# Altium schematic symbol library Connectors.SchLib: 47 symbols
Pins are listed as number, name and electrical type; pins without a type are passive.

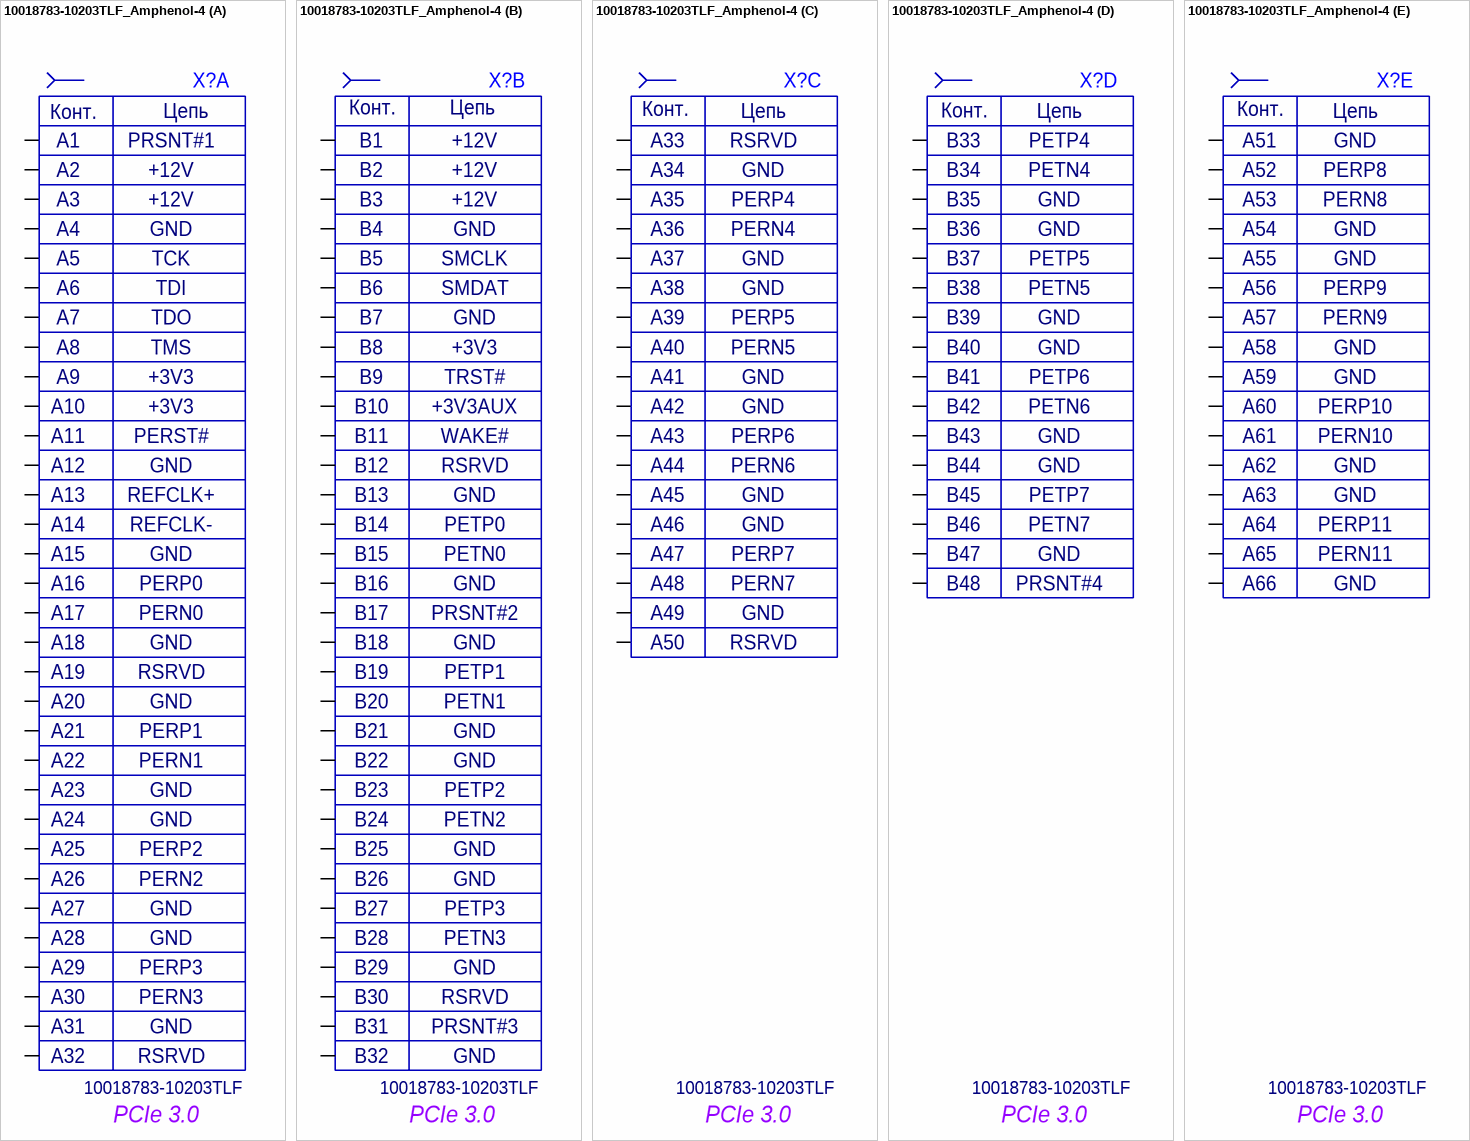
[diagram p0: symbol 10018783-10203TLF_Amphenol-4]

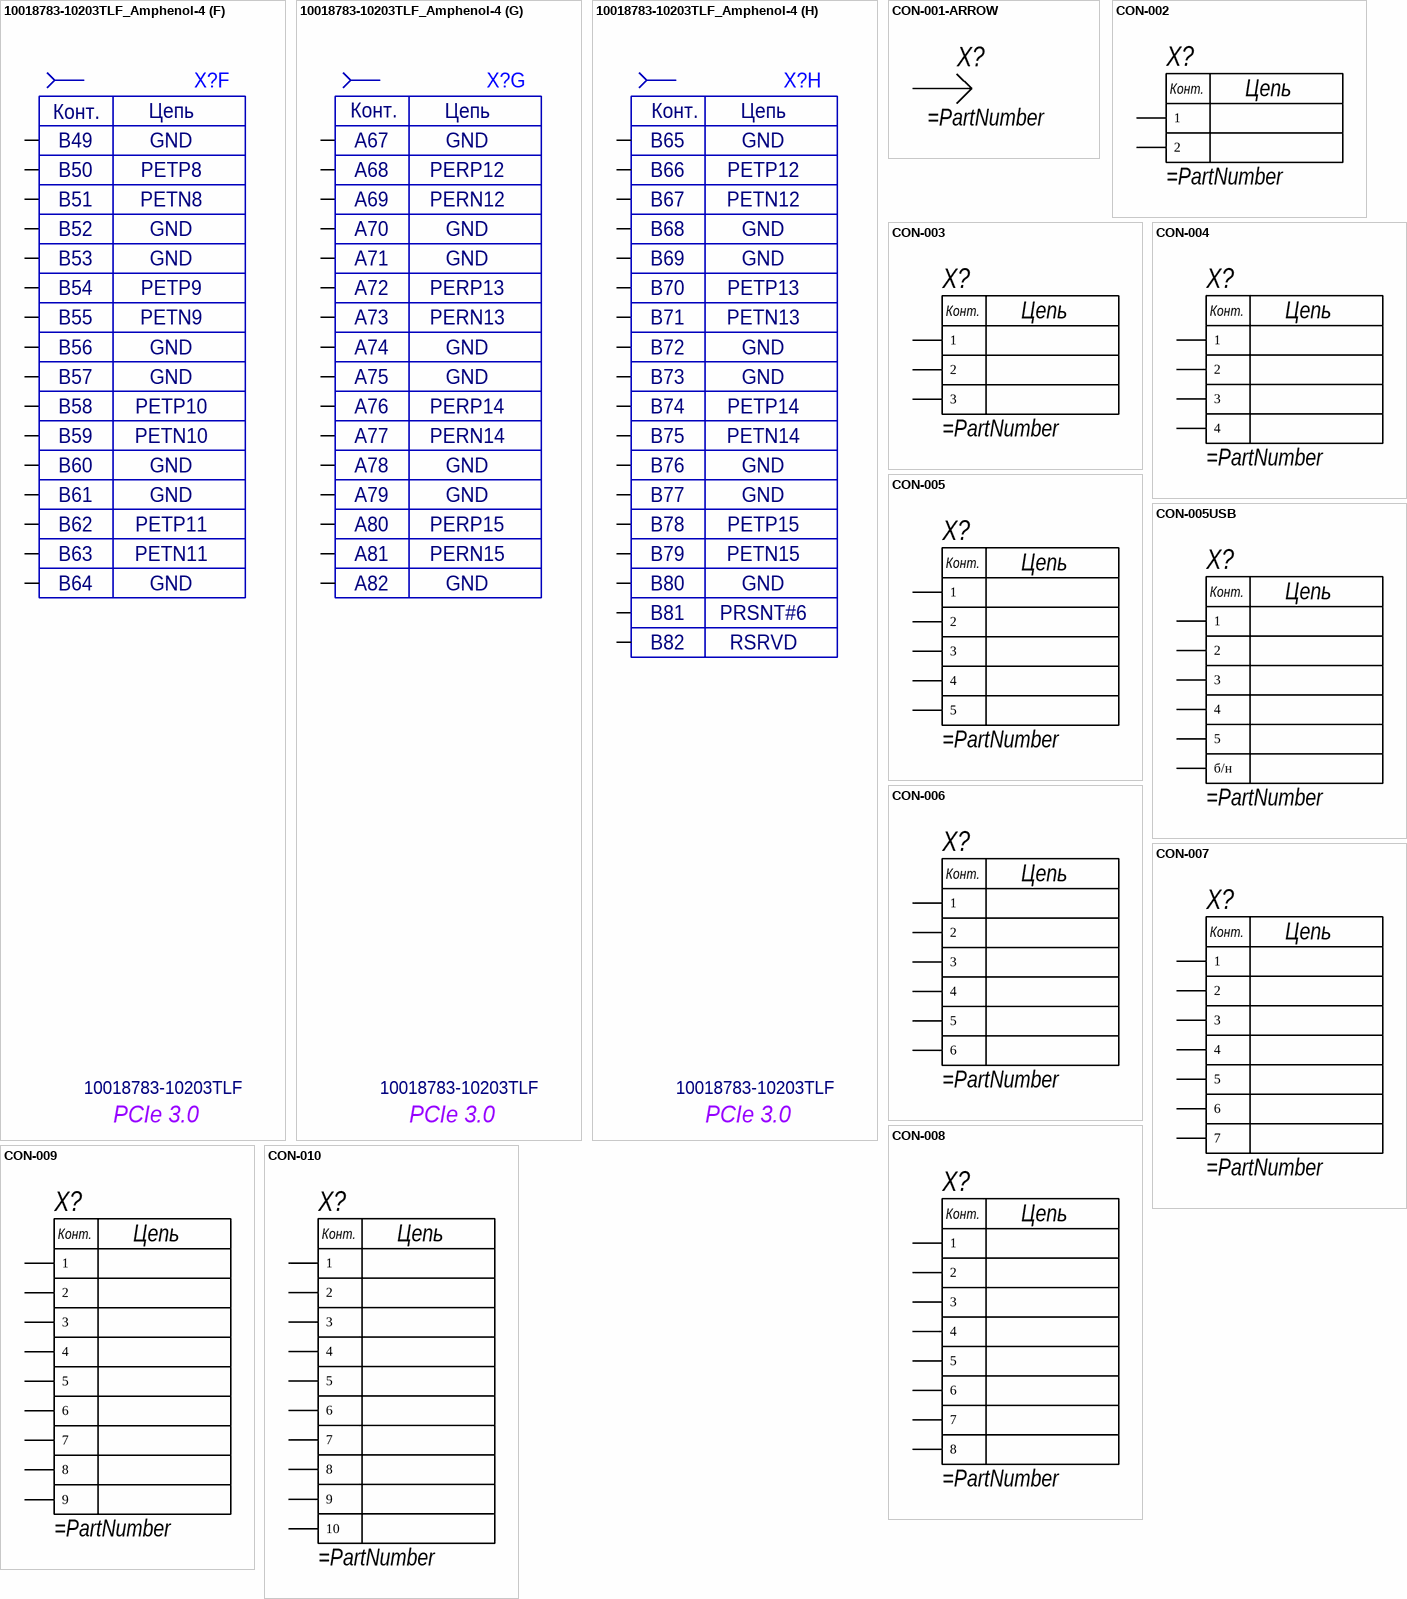
[diagram p1: symbols 10018783-10203TLF_Amphenol-4 to CON-010]

## 10018783-10203TLF_Amphenol-4
designator X?, comment PCIe 3.0  PartNumber: 10018783-10203TLF
PCI Express® GEN 3 Card Edge, Storage and Server Connector, Vertical, Through Hole, x16, 164 Positions, 1.00mm (0.039in) Pitch; Manufacturer: Amphenol; ЕСКД: Розетка 10018783-10203TLF; Категория: Розетка; Placement: +; Quantity pins: 164
part A pins: A1 PRSNT#1, A2 +12V, A3 +12V, A4 GND, A5 TCK, A6 TDI, A7 TDO, A8 TMS, A9 +3V3, A10 +3V3, A11 PWRGD, A12 GND, A13 REFCLK+, A14 REFCLK-, A15 GND, A16 PERP0, A17 PERN0, A18 GND, A19 RSRVD, A20 GND, A21 PERP1, A22 PERN1, A23 GND, A24 GND, A25 PERP2, A26 PERN2, A27 GND, A28 2.5, A29 PERP3, A30 PERN3, A31 GND, A32 RSVD
part B pins: B1 +12V, B2 +12V, B3 +12V, B4 GND, B5 2.5, B6 SMDAT, B7 GND, B8 +3V3, B9 JTAG1, B10 +3V3AUX, B11 WAKE#, B12 RSVD, B13 GND, B14 PETP0, B15 PETN0, B16 GND, B17 PRSNT#2, B18 GND, B19 PETP1, B20 PETN1, B21 GND, B22 GND, B23 PETP2, B24 PETN2, B25 GND, B26 GND, B27 PETP3, B28 PETN3, B29 GND, B30 RSVD, B31 PRSNT#2, B32 GND
part C pins: A33 RSRVD, A34 GND, A35 PERP4, A36 PERN4, A37 GND, A38 GND, A39 PERP5, A40 PERN5, A41 GND, A42 GND, A43 PERP6, A44 PERN6, A45 GND, A46 GND, A47 PERP7, A48 PERN7, A49 GND, A50 RSRVD
part D pins: B33 PETP4, B34 PETN4, B35 GND, B36 GND, B37 PETP5, B38 PETN5, B39 GND, B40 GND, B41 PETP6, B42 PETN6, B43 GND, B44 GND, B45 PETP7, B46 PETN7, B47 GND, B48 PRSNT#4
part E pins: A51 GND, A52 PERP8, A53 PERN8, A54 GND, A55 GND, A56 PERP9, A57 PERN9, A58 GND, A59 GND, A60 PERP10, A61 PERN10, A62 GND, A63 GND, A64 PERP11, A65 PERN11, A66 GND
part F pins: B49 GND, B50 PETP8, B51 PETN8, B52 GND, B53 GND, B54 PETP9, B55 PETN9, B56 GND, B57 GND, B58 PETP10, B59 PETN10, B60 GND, B61 GND, B62 PETP11, B63 PETN11, B64 GND
part G pins: A67 GND, A68 PERP12, A69 PERN12, A70 GND, A71 GND, A72 PERP13, A73 PERN13, A74 GND, A75 GND, A76 PERP14, A77 PERN14, A78 GND, A79 GND, A80 PERP15, A81 PERN15, A82 GND
part H pins: B65 GND, B66 PETP12, B67 PETN12, B68 GND, B69 GND, B70 PETP13, B71 PETN13, B72 GND, B73 GND, B74 PETP14, B75 PETN14, B76 GND, B77 GND, B78 PETP15, B79 PETN15, B80 GND, B81 PRSNT#6, B82 RSRVD
part A text: Конт.; Цепь; PERST#
part B text: Конт.; Цепь; SMCLK; TRST#; PRSNT#3
part C text: Конт.; Цепь
part D text: Конт.; Цепь
part E text: Конт.; Цепь
part F text: Конт.; Цепь
part G text: Конт.; Цепь
part H text: Конт.; Цепь

## CON-001-ARROW
designator X?
pins: 1

## CON-002
designator X?
pins: 1, 2
text: Цепь; Конт.

## CON-003
designator X?
pins: 1, 2, 3
text: Цепь; Конт.

## CON-004
designator X?
pins: 1, 2, 3, 4
text: Цепь; Конт.

## CON-005
designator X?
pins: 1, 2, 3, 4, 5
text: Цепь; Конт.

## CON-005USB
designator X?
pins: 1, 2, 3, 4, 5, M б/н
text: Цепь; Конт.

## CON-006
designator X?
pins: 1, 2, 3, 4, 5, 6
text: Цепь; Конт.

## CON-007
designator X?
pins: 1, 2, 3, 4, 5, 6, 7
text: Цепь; Конт.

## CON-008
designator X?
pins: 1, 2, 3, 4, 5, 6, 7, 8
text: Цепь; Конт.

## CON-009
designator X?
pins: 1, 2, 3, 4, 5, 6, 7, 8, 9
text: Цепь; Конт.

## CON-010
designator X?
pins: 1, 2, 3, 4, 5, 6, 7, 8, 9, 10
text: Цепь; Конт.

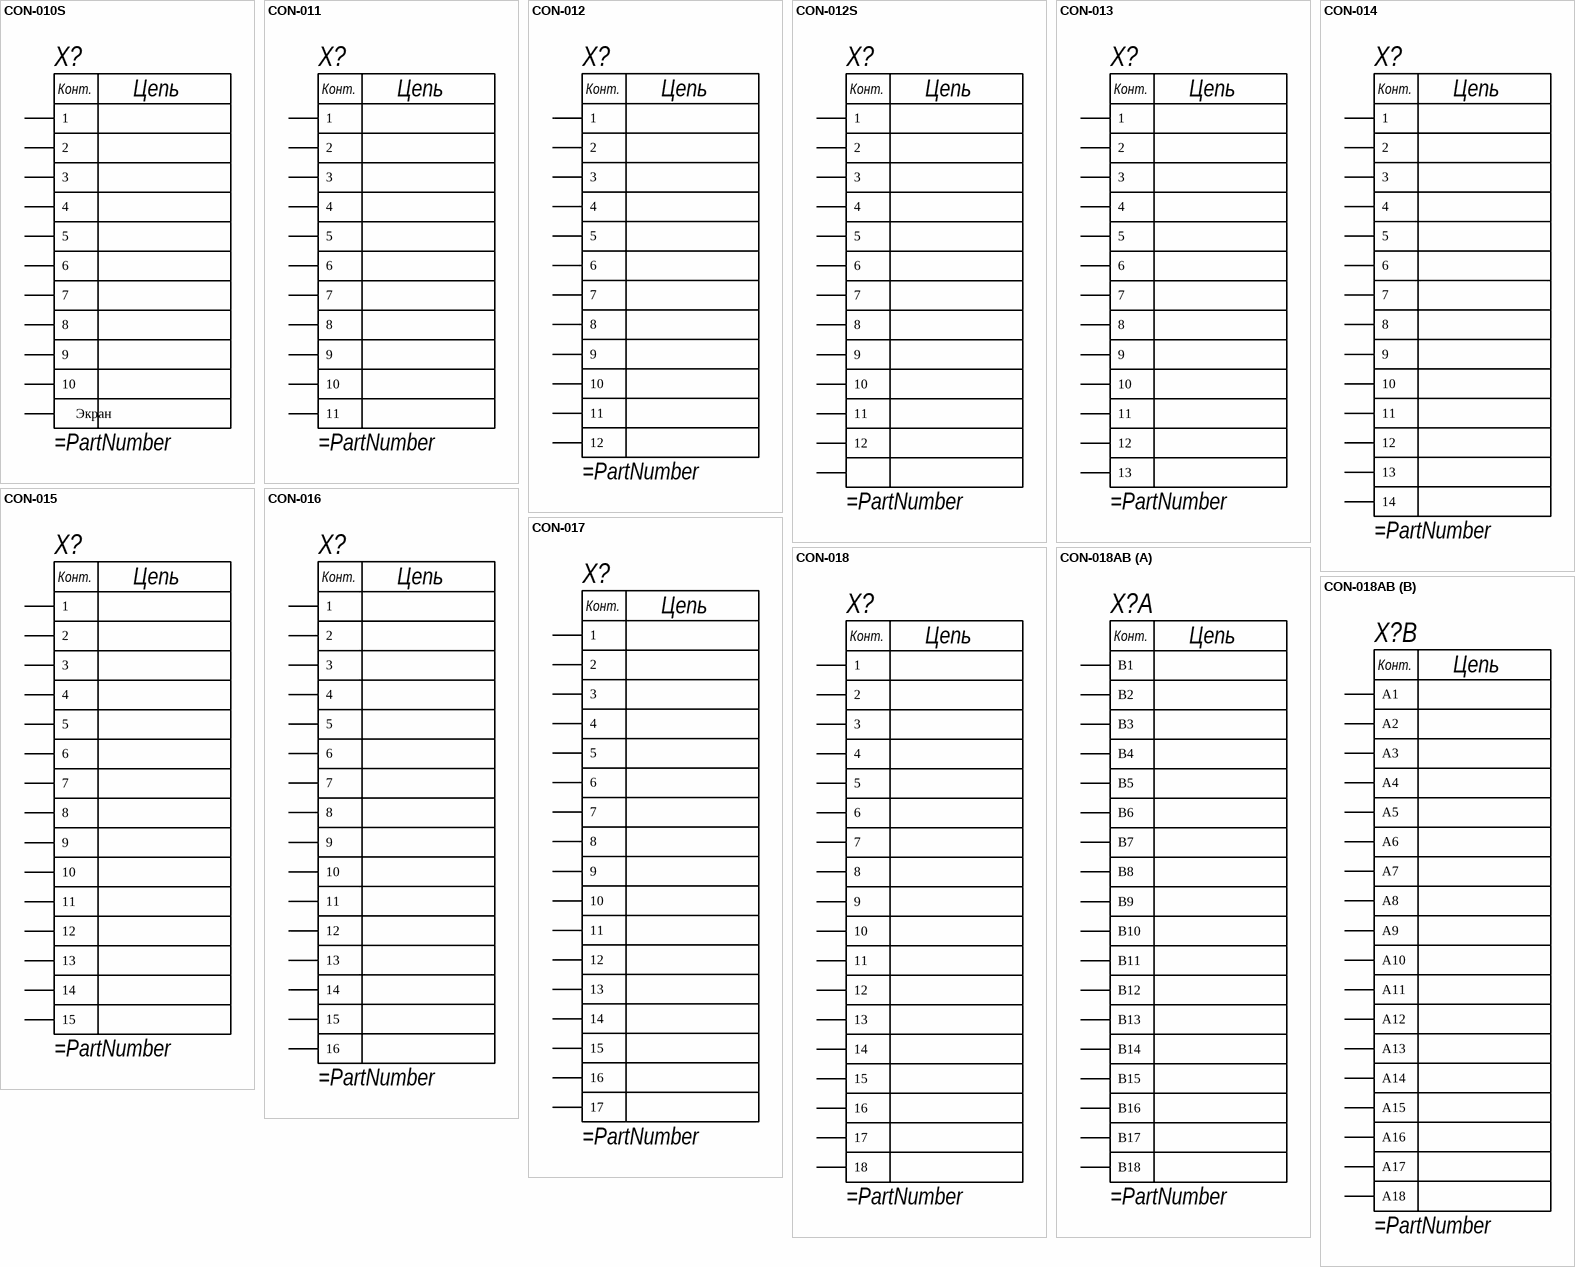
[diagram p2: symbols CON-010S to CON-018AB]

## CON-010S
designator X?
pins: 1, 2, 3, 4, 5, 6, 7, 8, 9, 10, S     Экран
text: Цепь; Конт.

## CON-011
designator X?
pins: 1, 2, 3, 4, 5, 6, 7, 8, 9, 10, 11
text: Цепь; Конт.

## CON-012
designator X?
pins: 1, 2, 3, 4, 5, 6, 7, 8, 9, 10, 11, 12
text: Цепь; Конт.

## CON-012S
designator X?
pins: 1, 2, 3, 4, 5, 6, 7, 8, 9, 10, 11, 12, S Экран
text: Цепь; Конт.

## CON-013
designator X?
pins: 1, 2, 3, 4, 5, 6, 7, 8, 9, 10, 11, 12, 13
text: Цепь; Конт.

## CON-014
designator X?
pins: 1, 2, 3, 4, 5, 6, 7, 8, 9, 10, 11, 12, 13, 14
text: Цепь; Конт.

## CON-015
designator X?
pins: 1, 2, 3, 4, 5, 6, 7, 8, 9, 10, 11, 12, 13, 14, 15
text: Цепь; Конт.

## CON-016
designator X?
pins: 1, 2, 3, 4, 5, 6, 7, 8, 9, 10, 11, 12, 13, 14, 15, 16
text: Цепь; Конт.

## CON-017
designator X?
pins: 1, 2, 3, 4, 5, 6, 7, 8, 9, 10, 11, 12, 13, 14, 15, 16, 17
text: Цепь; Конт.

## CON-018
designator X?
pins: 1, 2, 3, 4, 5, 6, 7, 8, 9, 10, 11, 12, 13, 14, 15, 16, 17, 18
text: Цепь; Конт.

## CON-018AB
designator X?
part A pins: B1, B2, B3, B4, B5, B6, B7, B8, B9, B10, B11, B12, B13, B14, B15, B16, B17, B18
part B pins: A1, A2, A3, A4, A5, A6, A7, A8, A9, A10, A11, A12, A13, A14, A15, A16, A17, A18
part A text: Цепь; Конт.
part B text: Цепь; Конт.

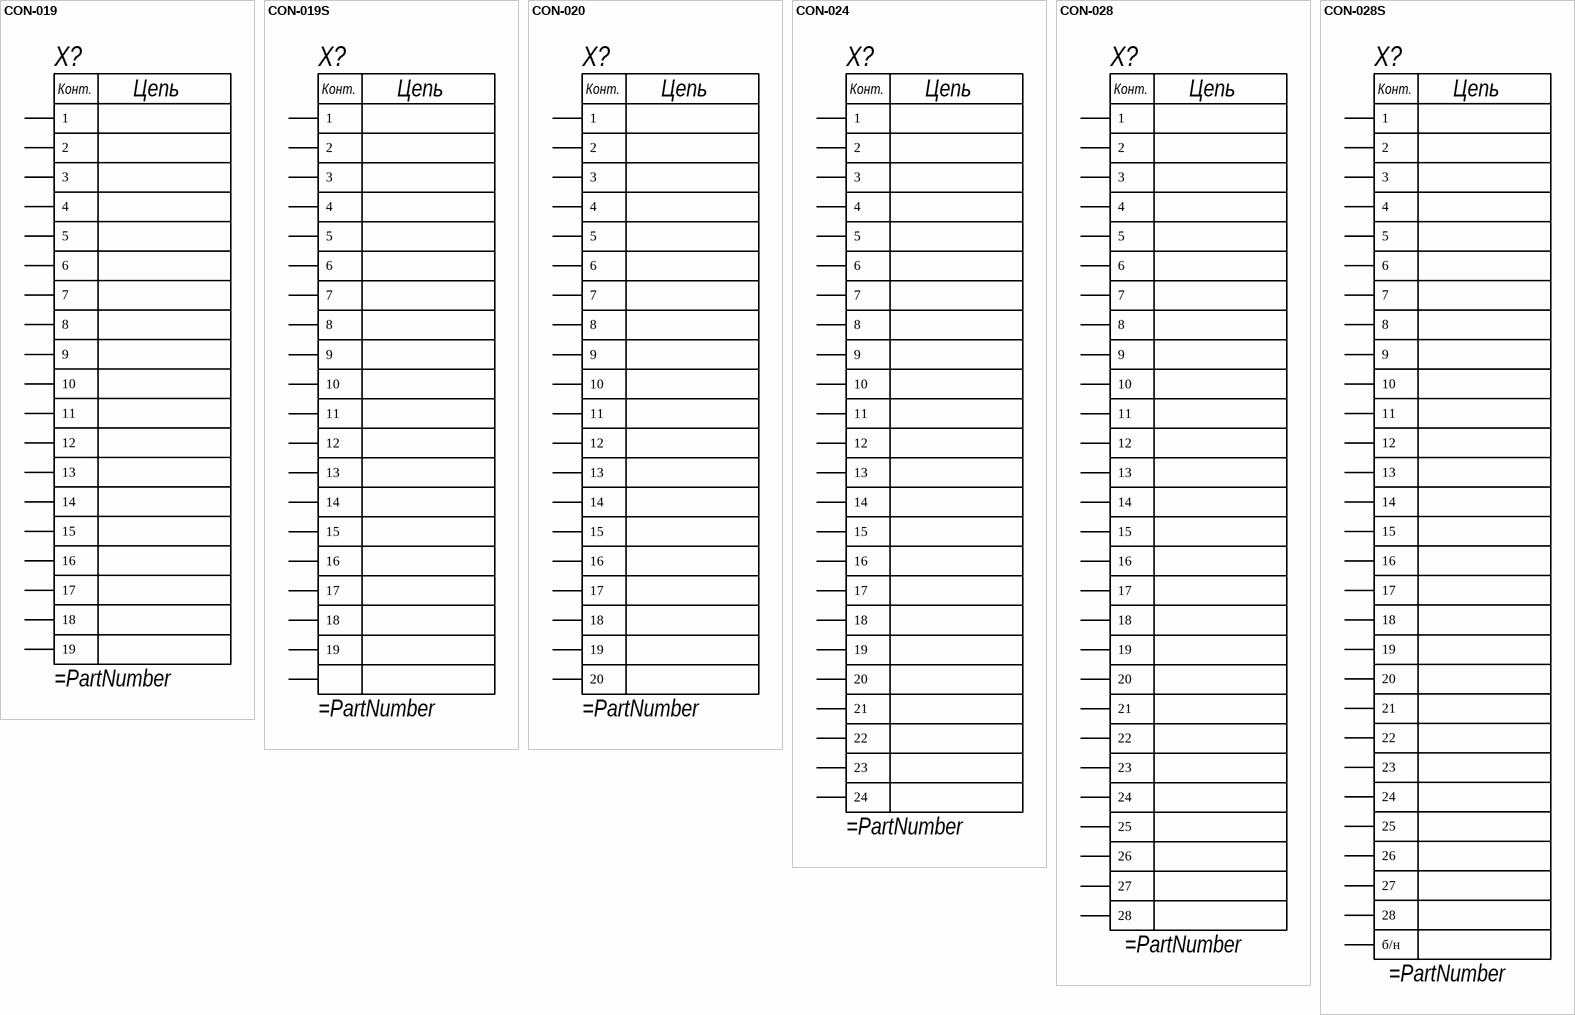
[diagram p3: symbols CON-019 to CON-028S]

## CON-019
designator X?
pins: 1, 2, 3, 4, 5, 6, 7, 8, 9, 10, 11, 12, 13, 14, 15, 16, 17, 18, 19
text: Цепь; Конт.

## CON-019S
designator X?
pins: 1, 2, 3, 4, 5, 6, 7, 8, 9, 10, 11, 12, 13, 14, 15, 16, 17, 18, 19, S Экран
text: Цепь; Конт.

## CON-020
designator X?
pins: 1, 2, 3, 4, 5, 6, 7, 8, 9, 10, 11, 12, 13, 14, 15, 16, 17, 18, 19, 20
text: Цепь; Конт.

## CON-024
designator X?
pins: 1, 2, 3, 4, 5, 6, 7, 8, 9, 10, 11, 12, 13, 14, 15, 16, 17, 18, 19, 20, 21, 22, 23, 24
text: Цепь; Конт.

## CON-028
designator X?
pins: 1, 2, 3, 4, 5, 6, 7, 8, 9, 10, 11, 12, 13, 14, 15, 16, 17, 18, 19, 20, 21, 22, 23, 24, 25, 26, 27, 28
text: Цепь; Конт.

## CON-028S
designator X?
pins: 0 б/н, 1, 2, 3, 4, 5, 6, 7, 8, 9, 10, 11, 12, 13, 14, 15, 16, 17, 18, 19, 20, 21, 22, 23, 24, 25, 26, 27, 28
text: Цепь; Конт.

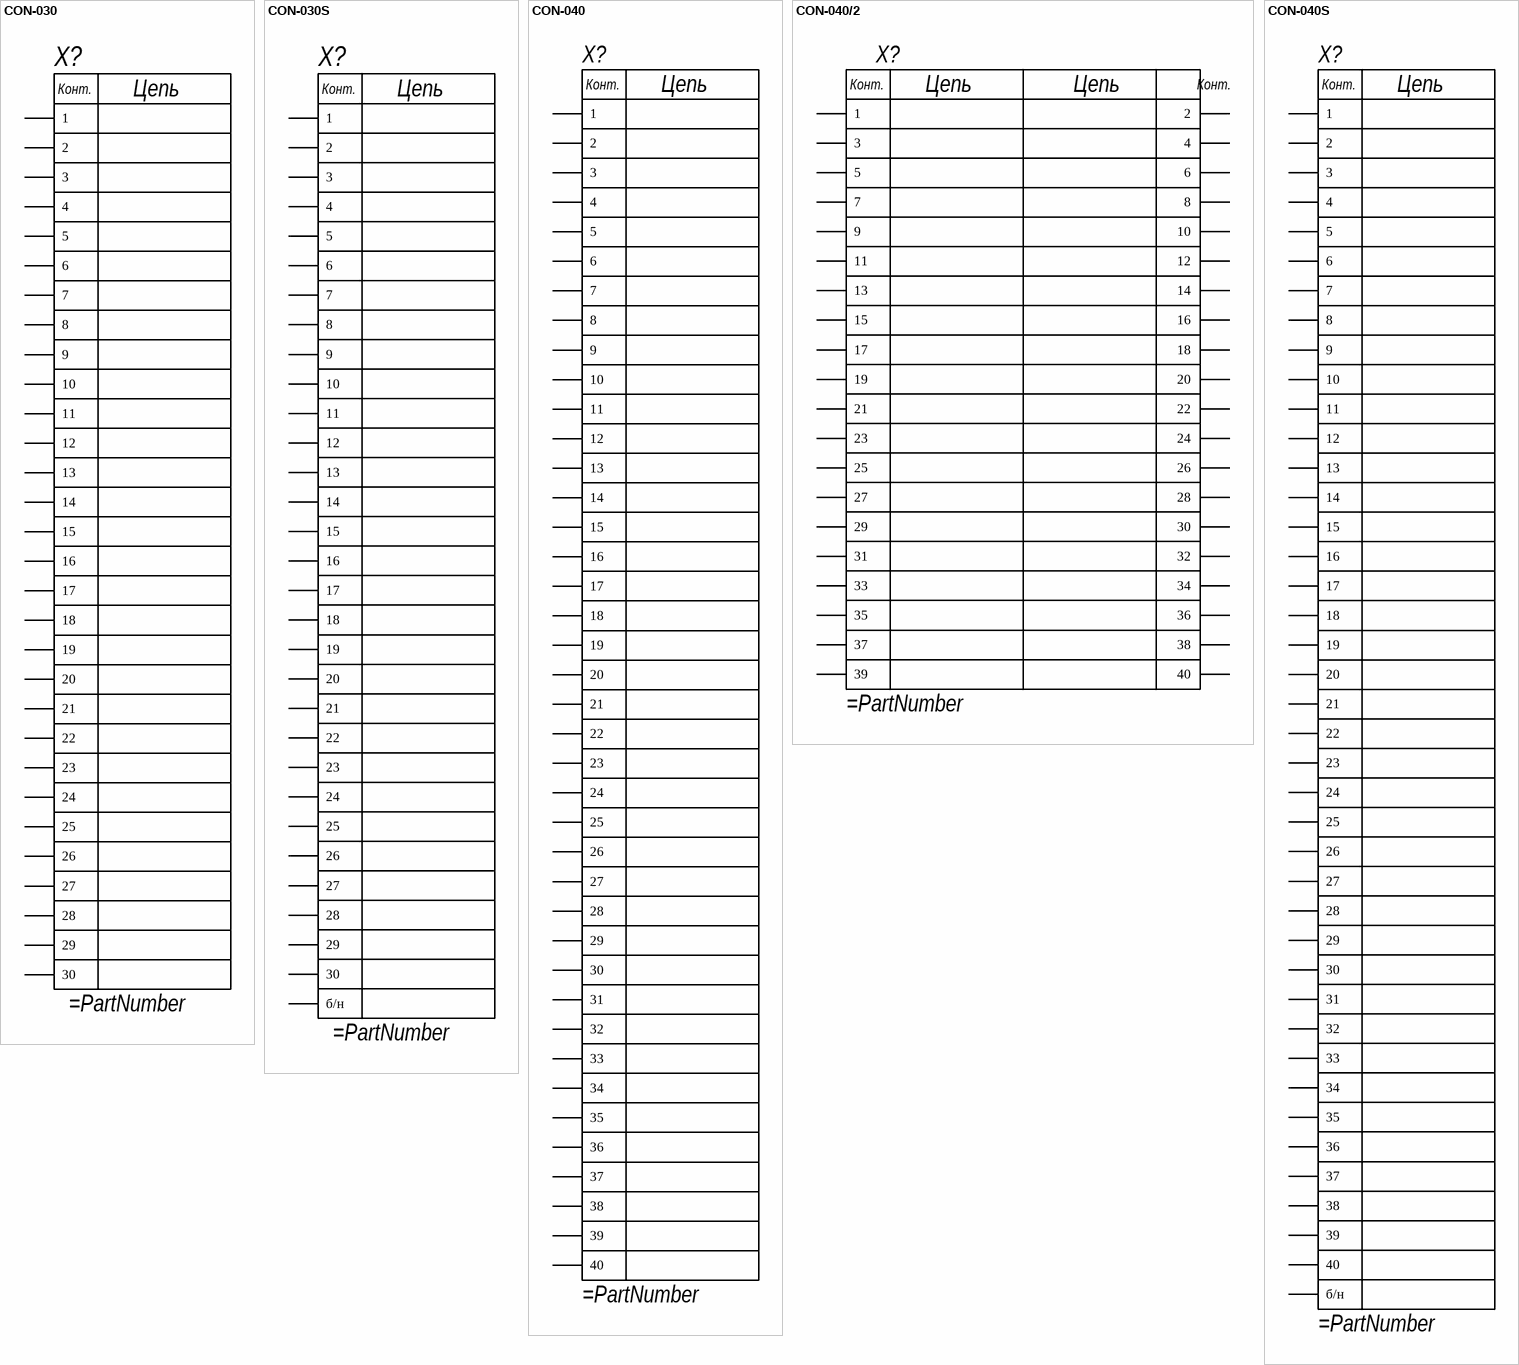
[diagram p4: symbols CON-030 to CON-040S]

## CON-030
designator X?
pins: 1, 2, 3, 4, 5, 6, 7, 8, 9, 10, 11, 12, 13, 14, 15, 16, 17, 18, 19, 20, 21, 22, 23, 24, 25, 26, 27, 28, 29, 30
text: Цепь; Конт.

## CON-030S
designator X?
pins: 0 б/н, 1, 2, 3, 4, 5, 6, 7, 8, 9, 10, 11, 12, 13, 14, 15, 16, 17, 18, 19, 20, 21, 22, 23, 24, 25, 26, 27, 28, 29, 30
text: Цепь; Конт.

## CON-040
designator X?
pins: 1, 2, 3, 4, 5, 6, 7, 8, 9, 10, 11, 12, 13, 14, 15, 16, 17, 18, 19, 20, 21, 22, 23, 24, 25, 26, 27, 28, 29, 30, 31, 32, 33, 34, 35, 36, 37, 38, 39, 40
text: Цепь; Конт.

## CON-040/2
designator X?
pins: 1, 2, 3, 4, 5, 6, 7, 8, 9, 10, 11, 12, 13, 14, 15, 16, 17, 18, 19, 20, 21, 22, 23, 24, 25, 26, 27, 28, 29, 30, 31, 32, 33, 34, 35, 36, 37, 38, 39, 40
text: Цепь; Конт.

## CON-040S
designator X?
pins: 0 б/н, 1, 2, 3, 4, 5, 6, 7, 8, 9, 10, 11, 12, 13, 14, 15, 16, 17, 18, 19, 20, 21, 22, 23, 24, 25, 26, 27, 28, 29, 30, 31, 32, 33, 34, 35, 36, 37, 38, 39, 40
text: Цепь; Конт.

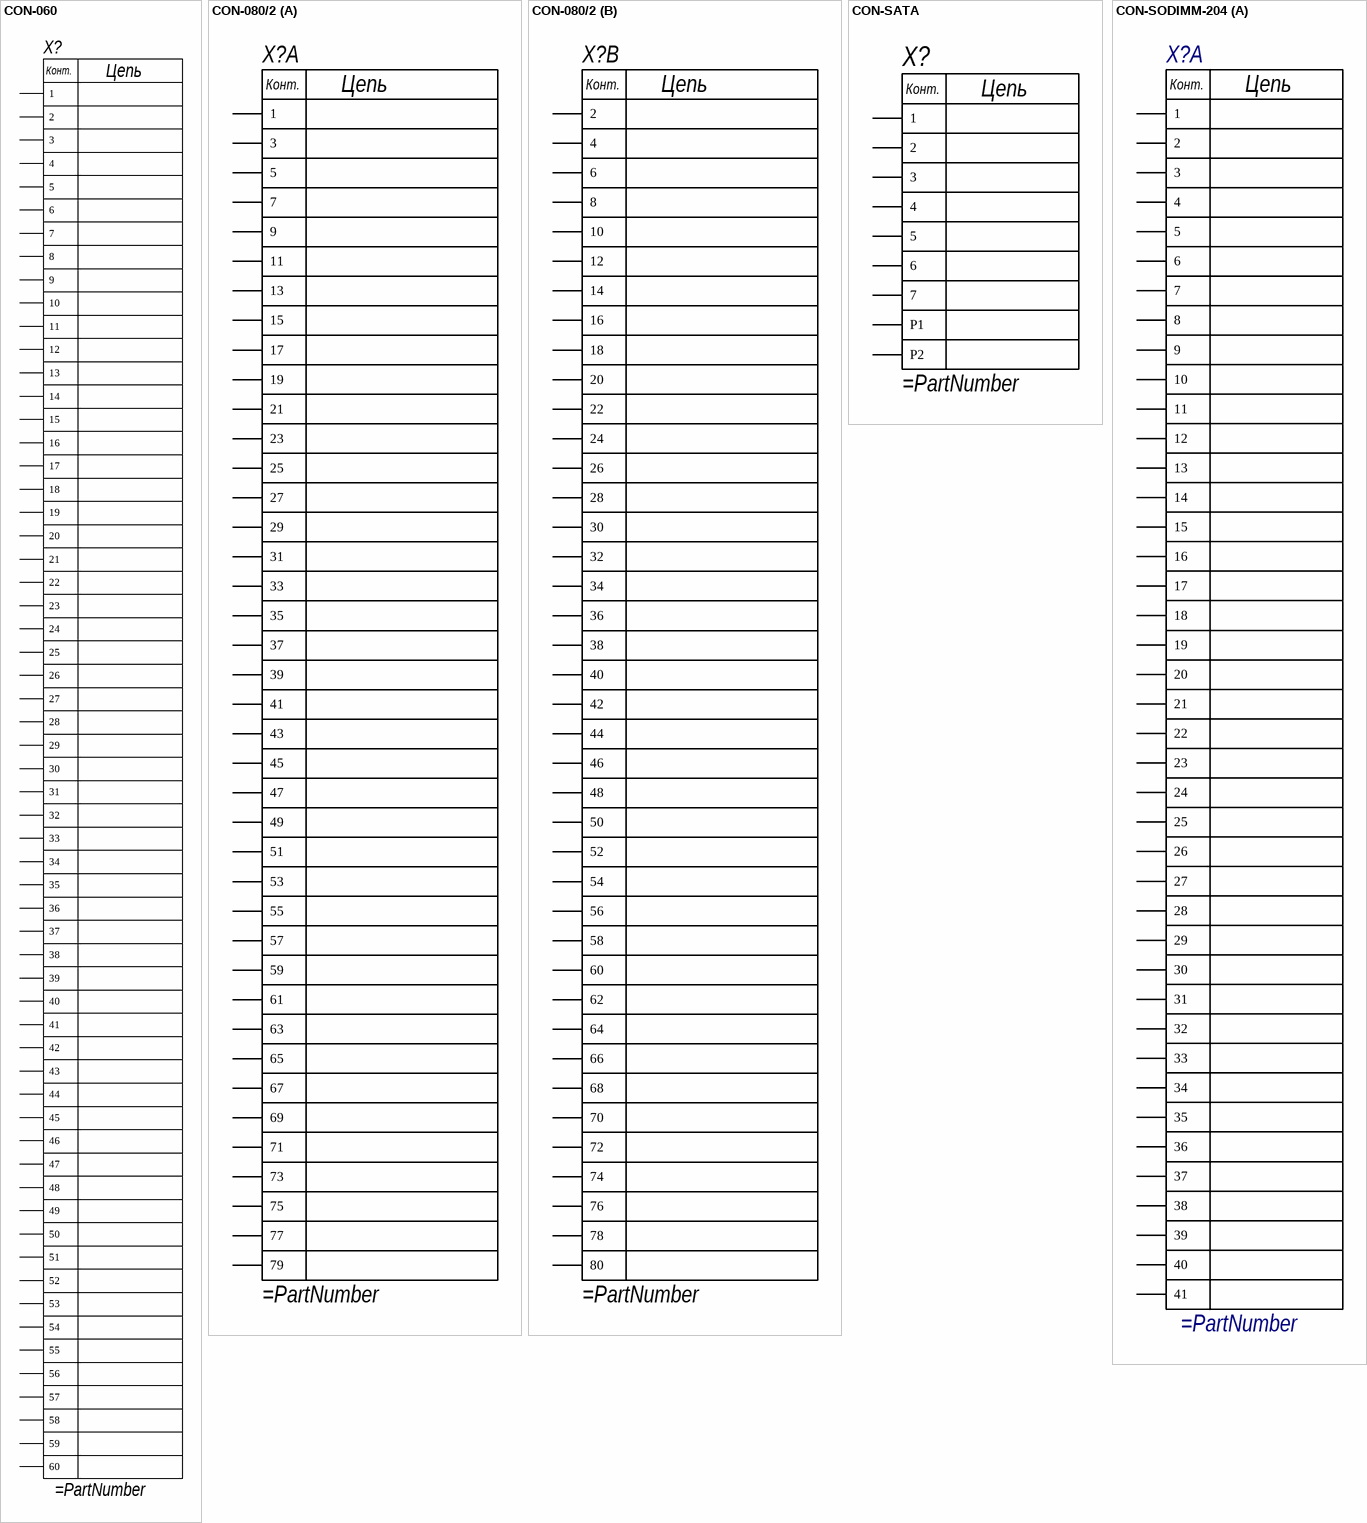
[diagram p5: symbols CON-060 to CON-SODIMM-204]

## CON-060
designator X?
pins: 1, 2, 3, 4, 5, 6, 7, 8, 9, 10, 11, 12, 13, 14, 15, 16, 17, 18, 19, 20, 21, 22, 23, 24, 25, 26, 27, 28, 29, 30, 31, 32, 33, 34, 35, 36, 37, 38, 39, 40, 41, 42, 43, 44, 45, 46, 47, 48, 49, 50, 51, 52, 53, 54, 55, 56, 57, 58, 59, 60
text: Цепь; Конт.

## CON-080/2
designator X?
part A pins: 1, 3, 5, 7, 9, 11, 13, 15, 17, 19, 21, 23, 25, 27, 29, 31, 33, 35, 37, 39, 41, 43, 45, 47, 49, 51, 53, 55, 57, 59, 61, 63, 65, 67, 69, 71, 73, 75, 77, 79
part B pins: 2, 4, 6, 8, 10, 12, 14, 16, 18, 20, 22, 24, 26, 28, 30, 32, 34, 36, 38, 40, 42, 44, 46, 48, 50, 52, 54, 56, 58, 60, 62, 64, 66, 68, 70, 72, 74, 76, 78, 80
part A text: Цепь; Конт.
part B text: Цепь; Конт.

## CON-SATA
designator X?
pins: 1, 2, 3, 4, 5, 6, 7, P1, P2
text: Цепь; Конт.

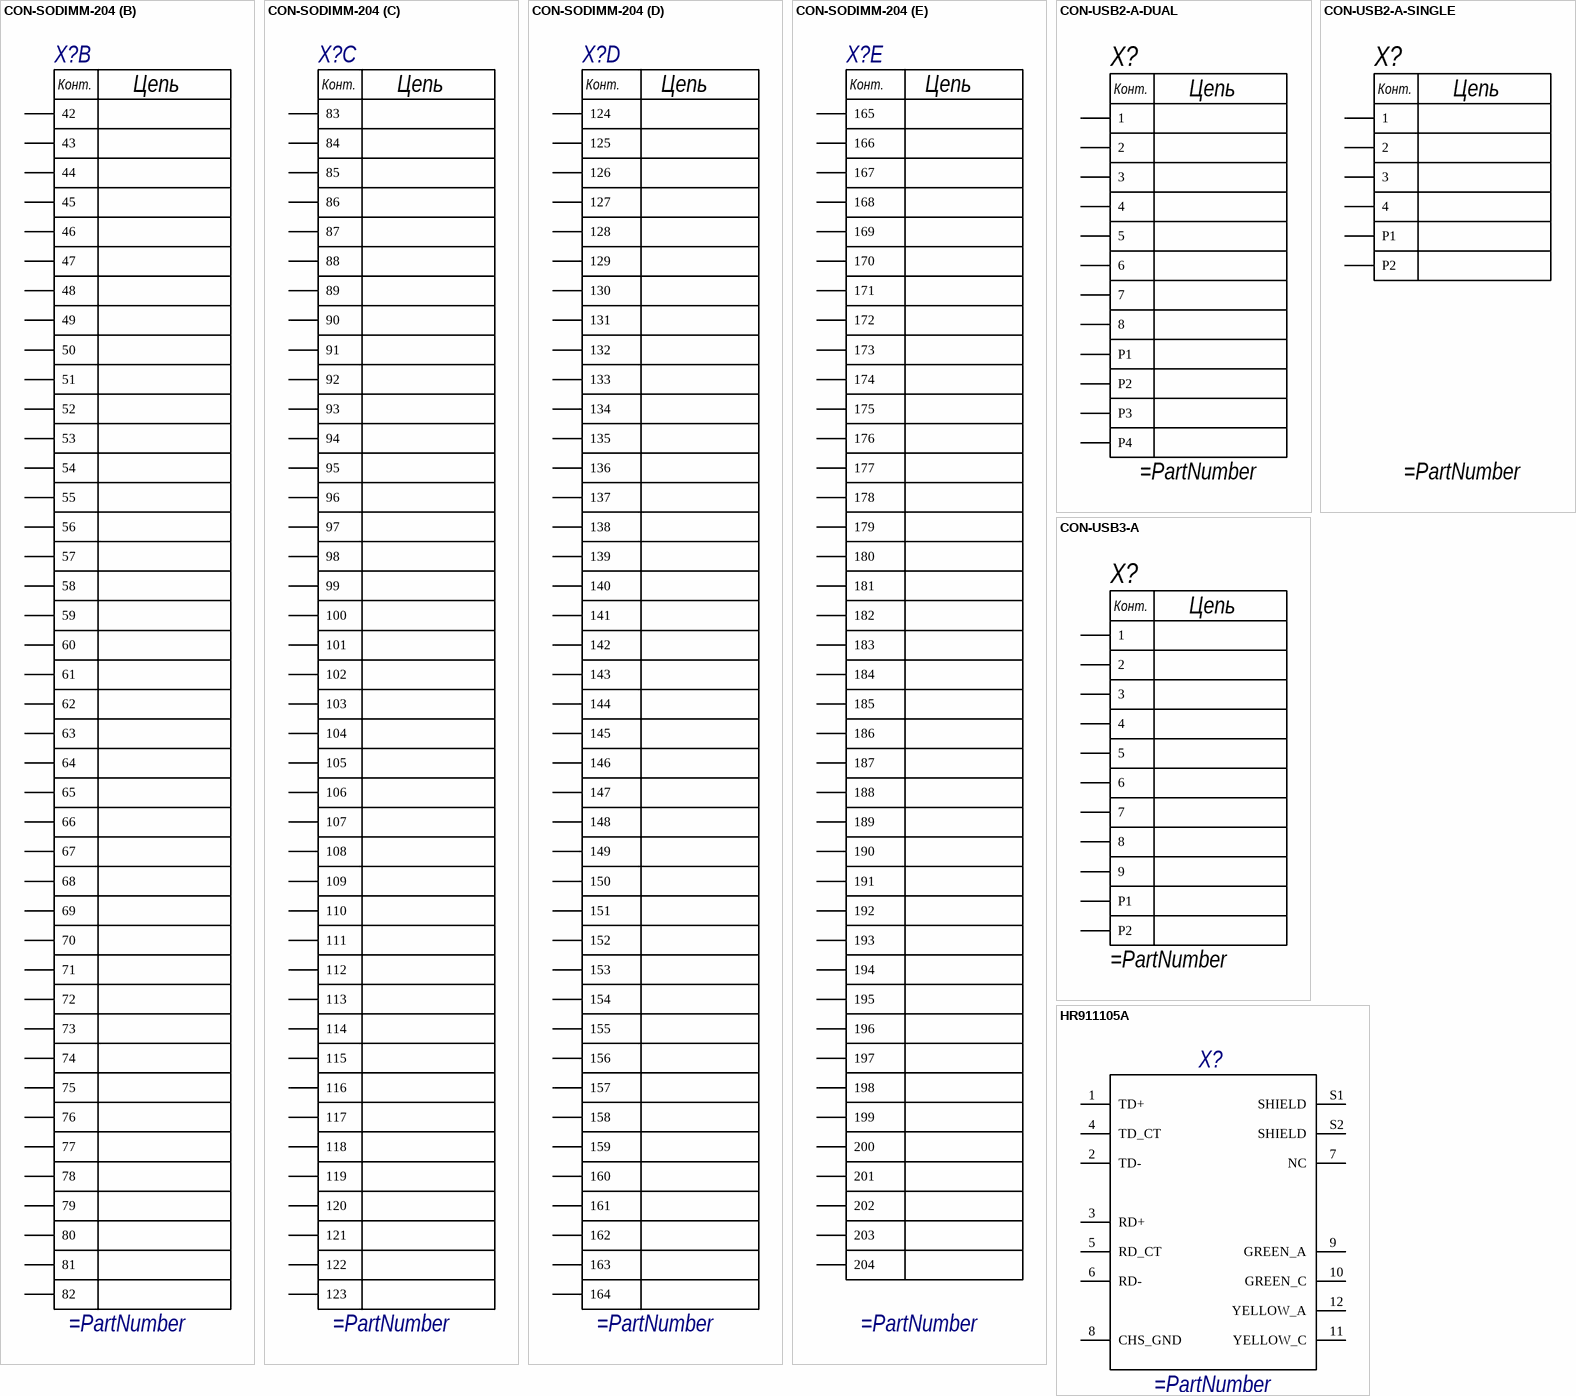
[diagram p6: symbols CON-SODIMM-204 to HR911105A]

## CON-SODIMM-204
designator X?
part A pins: 1, 2, 3, 4, 5, 6, 7, 8, 9, 10, 11, 12, 13, 14, 15, 16, 17, 18, 19, 20, 21, 22, 23, 24, 25, 26, 27, 28, 29, 30, 31, 32, 33, 34, 35, 36, 37, 38, 39, 40, 41
part B pins: 42, 43, 44, 45, 46, 47, 48, 49, 50, 51, 52, 53, 54, 55, 56, 57, 58, 59, 60, 61, 62, 63, 64, 65, 66, 67, 68, 69, 70, 71, 72, 73, 74, 75, 76, 77, 78, 79, 80, 81, 82
part C pins: 83, 84, 85, 86, 87, 88, 89, 90, 91, 92, 93, 94, 95, 96, 97, 98, 99, 100, 101, 102, 103, 104, 105, 106, 107, 108, 109, 110, 111, 112, 113, 114, 115, 116, 117, 118, 119, 120, 121, 122, 123
part D pins: 124, 125, 126, 127, 128, 129, 130, 131, 132, 133, 134, 135, 136, 137, 138, 139, 140, 141, 142, 143, 144, 145, 146, 147, 148, 149, 150, 151, 152, 153, 154, 155, 156, 157, 158, 159, 160, 161, 162, 163, 164
part E pins: 165, 166, 167, 168, 169, 170, 171, 172, 173, 174, 175, 176, 177, 178, 179, 180, 181, 182, 183, 184, 185, 186, 187, 188, 189, 190, 191, 192, 193, 194, 195, 196, 197, 198, 199, 200, 201, 202, 203, 204
part A text: Цепь; Конт.
part B text: Цепь; Конт.
part C text: Цепь; Конт.
part D text: Цепь; Конт.
part E text: Цепь; Конт.

## CON-USB2-A-DUAL
designator X?
Conn USB 2.0 Type A 2 Port
pins: 1, 2, 3, 4, 5, 6, 7, 8, P1, P2, P3, P4
text: Цепь; Конт.

## CON-USB2-A-SINGLE
designator X?
Conn USB 2.0 Type A 1 Port
pins: 1, 2, 3, 4, P1, P2
text: Цепь; Конт.

## CON-USB3-A
designator X?
pins: 1, 2, 3, 4, 5, 6, 7, 8, 9, P1, P2
text: Цепь; Конт.

## HR911105A
designator X?
MF: hanrun; MP: HR911130A; SnapEDA_Link: https://www.snapeda.com/parts/HR911130A/HanRun/view-part/?ref=snap; Package: None; Value: *; Check_prices: https://www.snapeda.com/parts/HR911130A/HanRun/view-part/?ref=eda
pins: 1 TD+, 2 TD-, 3 RD+, 4 TD_CT, 5 RD_CT, 6 RD-, 7 NC, 8 CHS_GND, 9 GREEN_A, 10 GREEN_C, 11 YELLOW_C, 12 YELLOW_A, S1 SHIELD, S2 SHIELD

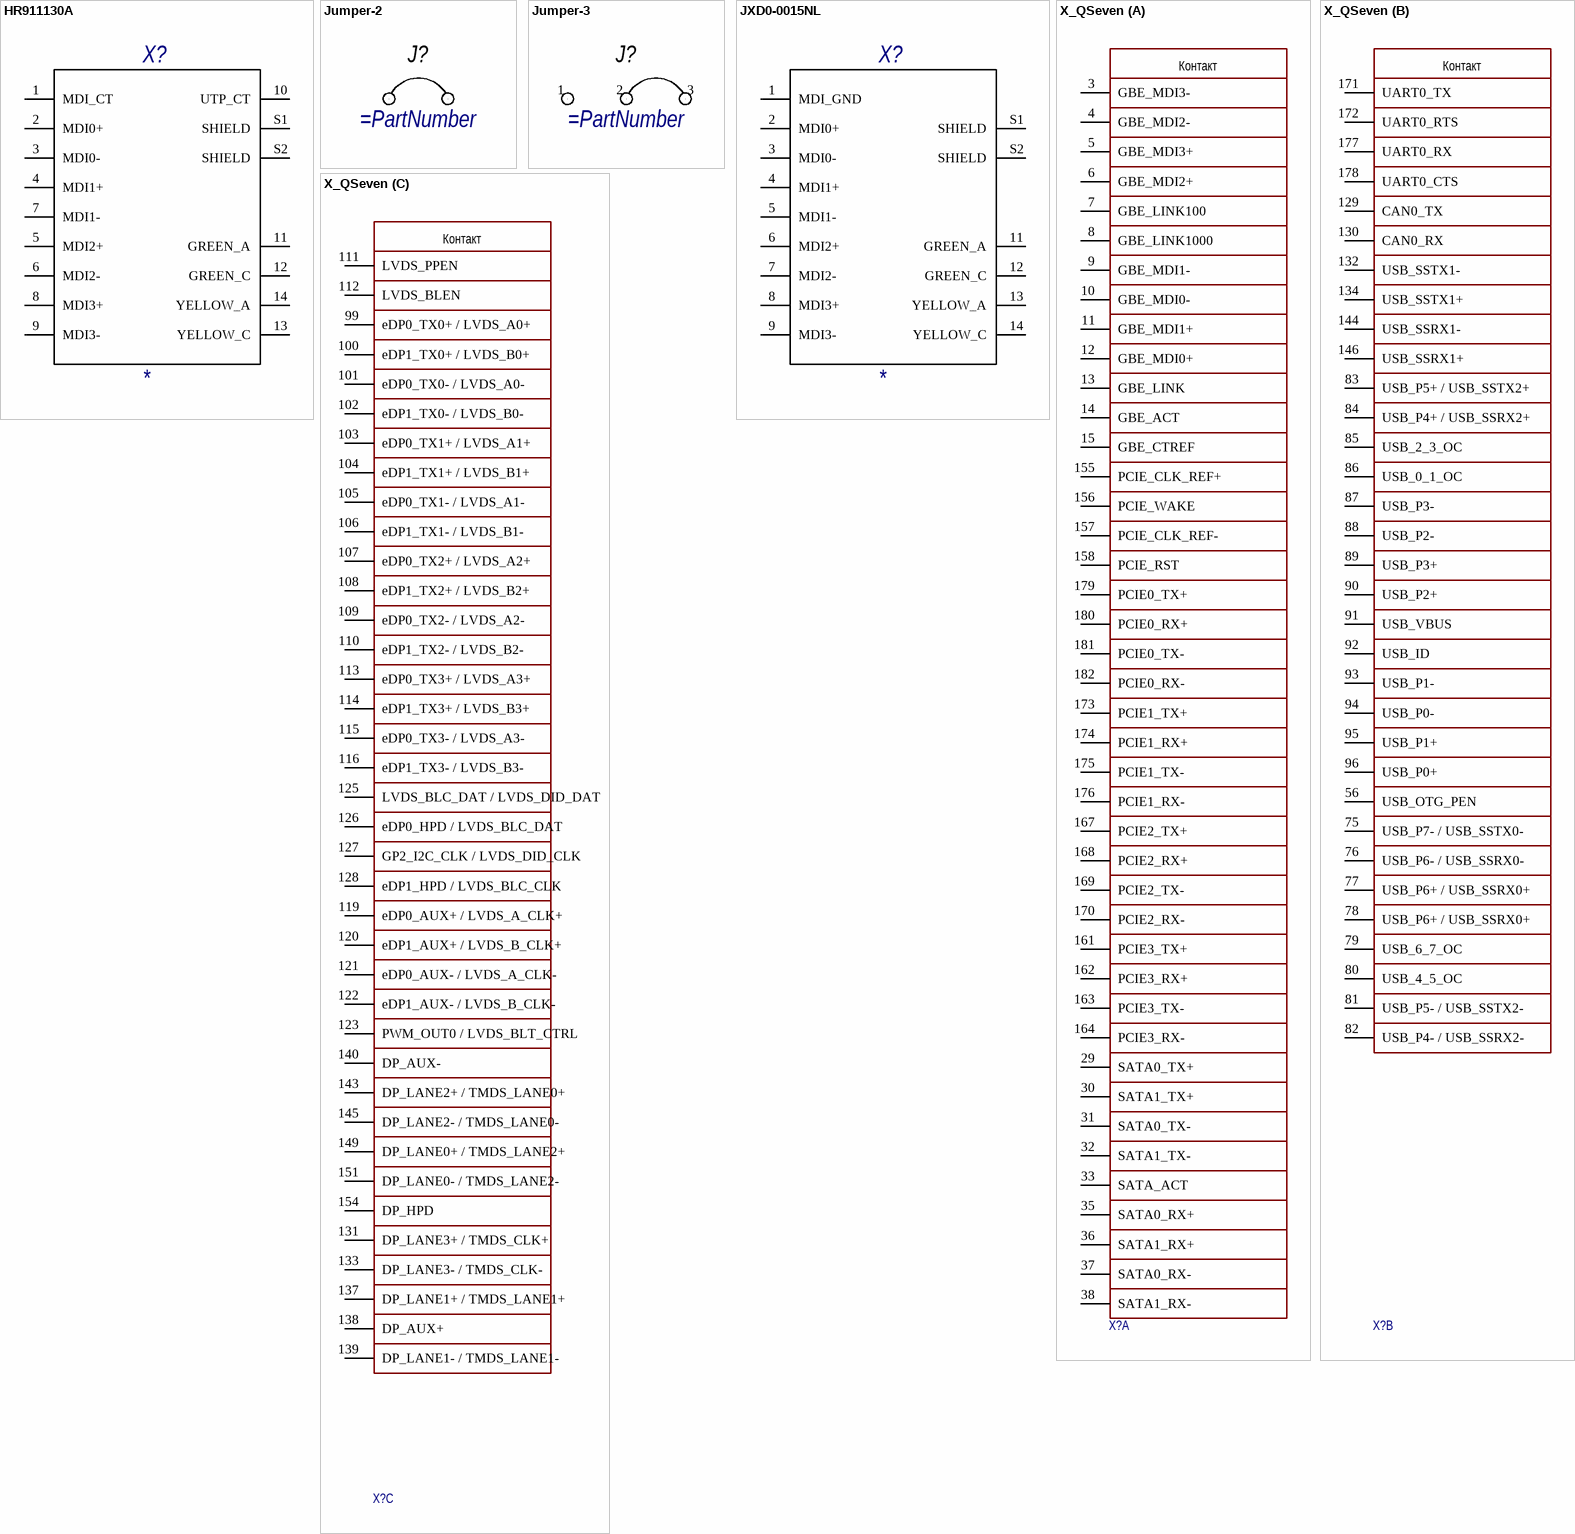
[diagram p7: symbols HR911130A to X_QSeven]

## HR911130A
designator X?
MF: hanrun; MP: HR911130A; SnapEDA_Link: https://www.snapeda.com/parts/HR911130A/HanRun/view-part/?ref=snap; Package: None; Value: *; Check_prices: https://www.snapeda.com/parts/HR911130A/HanRun/view-part/?ref=eda
pins: 1 MDI_CT, 2 MDI0+, 3 MDI0-, 4 MDI1+, 5 MDI2+, 6 MDI2-, 7 MDI1-, 8 MDI3+, 9 MDI3-, 10 UTP_CT, 11 GREEN_A, 12 GREEN_C, 13 YELLOW_C, 14 YELLOW_A, S1 SHIELD, S2 SHIELD

## Jumper-2
designator J?
pins: 1 (io), 2 (io)

## Jumper-3
designator J?
pins: 1 (io), 2 (io), 2 (io), 3 (io)

## JXD0-0015NL
designator X?
MF: hanrun; MP: HR911130A; SnapEDA_Link: https://www.snapeda.com/parts/HR911130A/HanRun/view-part/?ref=snap; Package: None; Value: *; Check_prices: https://www.snapeda.com/parts/HR911130A/HanRun/view-part/?ref=eda
pins: 1 MDI_GND, 2 MDI0+, 3 MDI0-, 4 MDI1+, 5 MDI1-, 6 MDI2+, 7 MDI2-, 8 MDI3+, 9 MDI3-, 11 GREEN_A, 12 GREEN_C, 13 YELLOW_A, 14 YELLOW_C, S1 SHIELD, S2 SHIELD

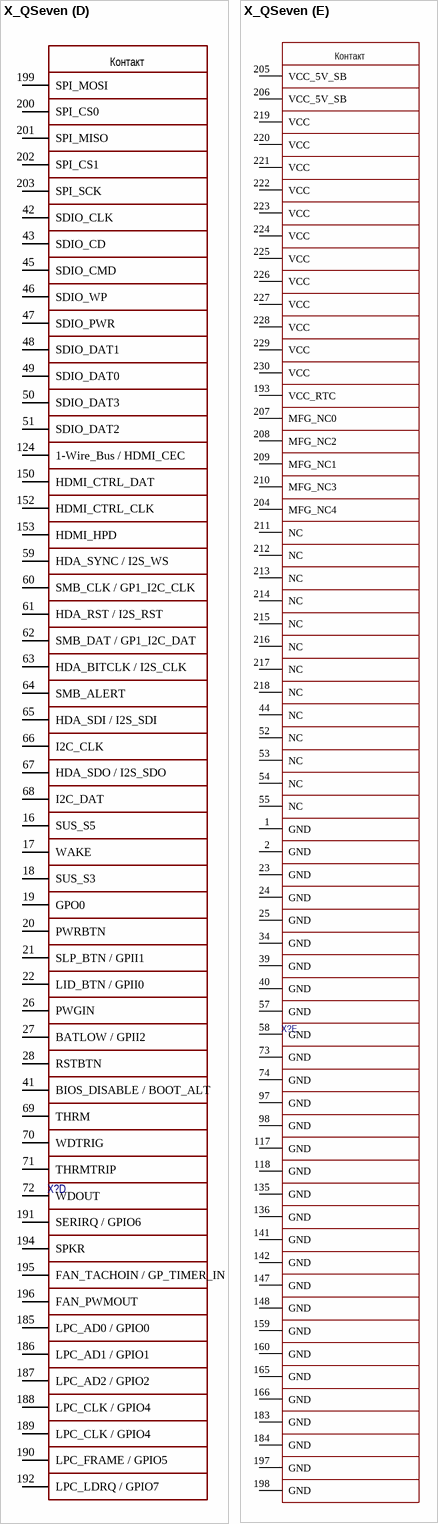
[diagram p8: symbol X_QSeven]

## X_QSeven
designator X?, comment 125A-78C00 / CN113-230-000  (value not drawn)
Разъём QSeven 230pin
part A pins: 3 GBE_MDI3-, 4 GBE_MDI2-, 5 GBE_MDI3+, 6 GBE_MDI2+, 7 GBE_LINK100, 8 GBE_LINK1000, 9 GBE_MDI1-, 10 GBE_MDI0- , 11 GBE_MDI1+, 12 GBE_MDI0+, 13 GBE_LINK, 14 GBE_ACT, 15 GBE_CTREF, 29 SATA0_TX+ , 30 SATA1_TX+, 31 SATA0_TX-, 32 SATA1_TX-, 33 SATA_ACT, 35 SATA0_RX+, 36 SATA1_RX+, 37 SATA0_RX- , 38 SATA1_RX-, 155 PCIE_CLK_REF+, 156 PCIE_WAKE, 157 PCIE_CLK_REF-, 158 PCIE_RST, 161 PCIE3_TX+, 162 PCIE3_RX+, 163 PCIE3_TX-, 164 PCIE3_RX-, 167 PCIE2_TX+, 168 PCIE2_RX+, 169 PCIE2_TX-, 170 PCIE2_RX-, 173 PCIE1_TX+, 174 PCIE1_RX+, 175 PCIE1_TX-, 176 PCIE1_RX-, 179 PCIE0_TX+, 180 PCIE0_RX+, 181 PCIE0_TX- , 182 PCIE0_RX-
part B pins: 56 USB_OTG_PEN, 75 USB_P7- / USB_SSTX0-, 76 USB_P6- / USB_SSRX0-, 77 USB_P6+ / USB_SSRX0+, 78 USB_P6+ / USB_SSRX0+, 79 USB_6_7_OC, 80 USB_4_5_OC, 81 USB_P5- / USB_SSTX2-, 82 USB_P4- / USB_SSRX2-, 83 USB_P5+ / USB_SSTX2+, 84 USB_P4+ / USB_SSRX2+, 85 USB_2_3_OC, 86 USB_0_1_OC, 87 USB_P3-, 88 USB_P2- , 89 USB_P3+, 90 USB_P2+, 91 USB_VBUS, 92 USB_ID, 93 USB_P1-, 94 USB_P0-, 95 USB_P1+, 96 USB_P0+, 129 CAN0_TX, 130 CAN0_RX, 132 USB_SSTX1-, 134 USB_SSTX1+, 144 USB_SSRX1-, 146 USB_SSRX1+, 171 UART0_TX, 172 UART0_RTS, 177 UART0_RX, 178 UART0_CTS
part C pins: 99 eDP0_TX0+ / LVDS_A0+, 100 eDP1_TX0+ / LVDS_B0+, 101 eDP0_TX0- / LVDS_A0-, 102 eDP1_TX0- / LVDS_B0-, 103 eDP0_TX1+ / LVDS_A1+, 104 eDP1_TX1+ / LVDS_B1+, 105 eDP0_TX1- / LVDS_A1-, 106 eDP1_TX1- / LVDS_B1-, 107 eDP0_TX2+ / LVDS_A2+, 108 eDP1_TX2+ / LVDS_B2+, 109 eDP0_TX2- / LVDS_A2-, 110 eDP1_TX2- / LVDS_B2-, 111 LVDS_PPEN , 112 LVDS_BLEN, 113 eDP0_TX3+ / LVDS_A3+, 114 eDP1_TX3+ / LVDS_B3+, 115 eDP0_TX3- / LVDS_A3-, 116 eDP1_TX3- / LVDS_B3-, 119 eDP0_AUX+ / LVDS_A_CLK+, 120 eDP1_AUX+ / LVDS_B_CLK+, 121 eDP0_AUX- / LVDS_A_CLK-, 122 eDP1_AUX- / LVDS_B_CLK-, 123 PWM_OUT0 / LVDS_BLT_CTRL, 125 LVDS_BLC_DAT / LVDS_DID_DAT, 126 eDP0_HPD / LVDS_BLC_DAT, 127 GP2_I2C_CLK / LVDS_DID_CLK, 128 eDP1_HPD / LVDS_BLC_CLK, 131 DP_LANE3+ / TMDS_CLK+, 133 DP_LANE3- / TMDS_CLK-, 137 DP_LANE1+ / TMDS_LANE1+, 138 DP_AUX+, 139 DP_LANE1- / TMDS_LANE1-, 140 DP_AUX-, 143 DP_LANE2+ / TMDS_LANE0+, 145 DP_LANE2- / TMDS_LANE0-, 149 DP_LANE0+ / TMDS_LANE2+, 151 DP_LANE0- / TMDS_LANE2-, 154 DP_HPD
part D pins: 16 SUS_S5, 17 WAKE, 18 SUS_S3, 19 GPO0, 20 PWRBTN, 21 SLP_BTN / GPII1, 22 LID_BTN / GPII0, 26 PWGIN, 27 BATLOW / GPII2, 28 RSTBTN, 41 BIOS_DISABLE / BOOT_ALT, 42 SDIO_CLK, 43 SDIO_CD, 45 SDIO_CMD , 46 SDIO_WP, 47 SDIO_PWR, 48 SDIO_DAT1 , 49 SDIO_DAT0, 50 SDIO_DAT3, 51 SDIO_DAT2, 59 HDA_SYNC / I2S_WS, 60 SMB_CLK / GP1_I2C_CLK, 61 HDA_RST / I2S_RST, 62 SMB_DAT / GP1_I2C_DAT, 63 HDA_BITCLK / I2S_CLK, 64 SMB_ALERT, 65 HDA_SDI / I2S_SDI, 66 I2C_CLK, 67 HDA_SDO / I2S_SDO, 68 I2C_DAT  , 69 THRM, 70 WDTRIG, 71 THRMTRIP, 72 WDOUT, 124 1-Wire_Bus / HDMI_CEC, 150 HDMI_CTRL_DAT, 152 HDMI_CTRL_CLK, 153 HDMI_HPD, 185 LPC_AD0 / GPIO0, 186 LPC_AD1 / GPIO1, 187 LPC_AD2 / GPIO2, 188 LPC_CLK / GPIO4, 189 LPC_CLK / GPIO4, 190 LPC_FRAME / GPIO5, 191 SERIRQ / GPIO6, 192 LPC_LDRQ / GPIO7, 194 SPKR, 195 FAN_TACHOIN / GP_TIMER_IN, 196 FAN_PWMOUT , 199 SPI_MOSI, 200 SPI_CS0, 201 SPI_MISO, 202 SPI_CS1, 203 SPI_SCK
part E pins: 1 GND, 2 GND, 23 GND, 24 GND, 25 GND, 34 GND, 39 GND, 40 GND, 44 NC, 52 NC, 53 NC, 54 NC, 55 NC, 57 GND, 58 GND, 73 GND, 74 GND, 97 GND, 98 GND, 117 GND, 118 GND, 135 GND, 136 GND, 141 GND, 142 GND, 147 GND, 148 GND, 159 GND, 160 GND, 165 GND, 166 GND, 183 GND, 184 GND, 193 VCC_RTC, 197 GND , 198 GND , 204 MFG_NC4, 205 VCC_5V_SB, 206 VCC_5V_SB, 207 MFG_NC0, 208 MFG_NC2, 209 MFG_NC1, 210 MFG_NC3, 211 NC, 212 NC, 213 NC, 214 NC, 215 NC, 216 NC, 217 NC, 218 NC, 219 VCC, 220 VCC, 221 VCC, 222 VCC, 223 VCC, 224 VCC, 225 VCC, 226 VCC, 227 VCC, 228 VCC, 229 VCC, 230 VCC
part A text: Контакт
part B text: Контакт
part C text: Контакт
part D text: Контакт
part E text: Контакт